# EAGLE library part BMI323 (library BMI323)
3.0 SHUTTLE BOARD DEV KIT BMI323 Source: Datasheet <https://www.bosch-sensortec.com/media/boschsensortec/downloads/datasheets/bst-bmi323-ds000.pdf>
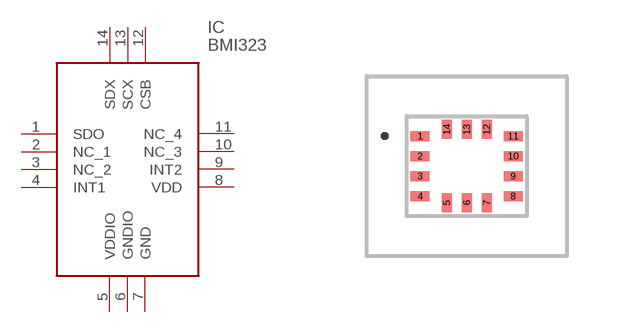
[diagram p0: symbol with the pads of BMI323; footprint BMI323]

Designator prefix IC

## BMI323 (Arrow_Part_Number: BMI323; Arrow_Price-Stock: null?region=nac; Description: 3.0 SHUTTLE BOARD DEV KIT BMI323; Height: 0.87mm; Manufacturer_Name: BOSCH; Manufacturer_Part_Number: BMI323; Mouser_Part_Number: 262-BMI323; Mouser_Price-Stock: https://www.mouser.co.uk/ProductDetail/Bosch-Sensortec/BMI323?qs=By6Nw2ByBD3%2FE1v0UqNQPQ%3D%3D)  [BMI323]
1  SDO
2  NC_1
3  NC_2
4  INT1
5  VDDIO
6  GNDIO
7  GND
8  VDD
9  INT2
10  NC_3
11  NC_4
12  CSB
13  SCX
14  SDX

## Footprint BMI323 (pad centres in mm)
BMI323-2
smd 0.475 x 0.25: 1 -1.163,0.75; 2 -1.163,0.25; 3 -1.163,-0.25; 4 -1.163,-0.75; 8 1.163,-0.75; 9 1.163,-0.25; 10 1.163,0.25; 11 1.163,0.75
smd 0.25 x 0.475: 5 -0.5,-0.913; 6 0,-0.913; 7 0.5,-0.913; 12 0.5,0.913; 13 0,0.913; 14 -0.5,0.913